# Altium schematic symbol library LT1018 Dual Comparator.SchLib: 1 symbol
Pins are listed as number, name and electrical type; pins without a type are passive.

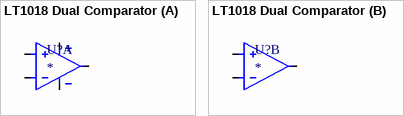
[diagram p0: symbol LT1018 Dual Comparator]

## LT1018 Dual Comparator
designator U?
part A pins: 1 +IN_A, 2 V-, 6 V+, 7 OUT_A, 8 -IN_A
part B pins: 3 +IN_B, 4 -IN_B, 5 OUT_B